# Altium schematic symbol library ADC128D818.SCHLIB: 1 symbol
Pins are listed as number, name and electrical type; pins without a type are passive.

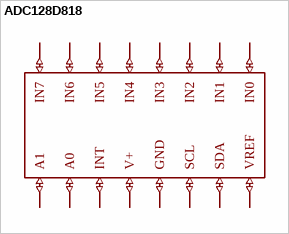
[diagram p0: symbol ADC128D818]

## ADC128D818
designator ?
GateName_1: G$1; SymbolName_1: ADC128D818; LibraryName: ADC128D818; DeviceSetName: ADC128D818; Package: TSSOP-16
footprint TSSOP-16
pins: A0 (io), A1 (io), GND (io), IN0 (io), IN1 (io), IN2 (io), IN3 (io), IN4 (io), IN5 (io), IN6 (io), IN7 (io), INT (io), SCL (io), SDA (io), V+ (io), VREF (io)